# Altium schematic symbol library MY.Schlib1.SchLib: 11 symbols
Pins are listed as number, name and electrical type; pins without a type are passive.

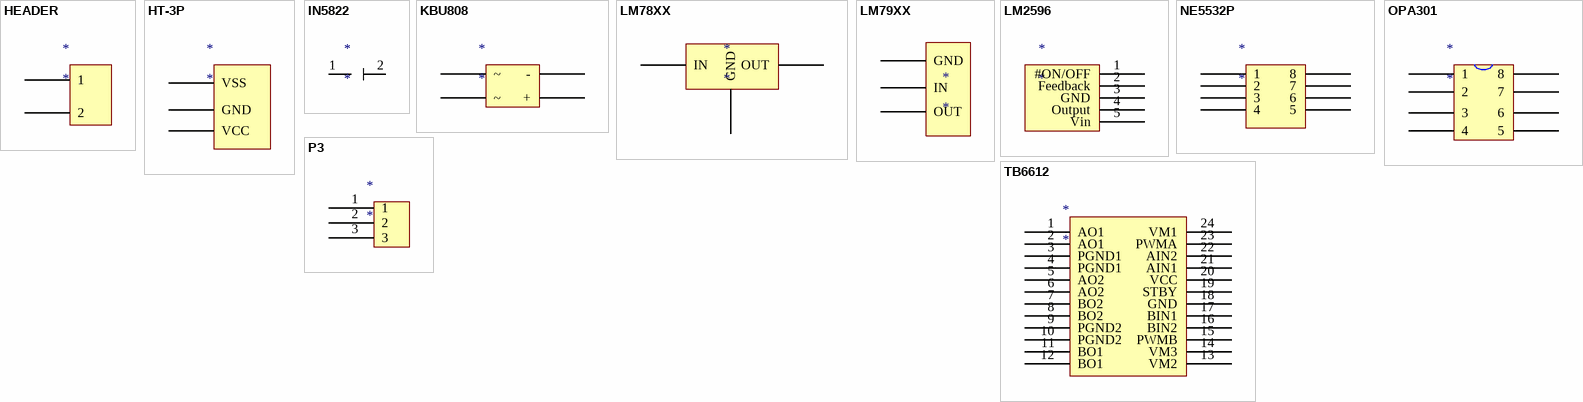
[diagram p0: symbols HEADER to TB6612]

## HEADER
designator *
pins: 9 1, 10 2

## HT-3P
designator *
footprint 插头-3P
pins: 1 VSS, 2 GND, 3 VCC

## IN5822
designator *
pins: 1 "OUT1", 2 "OUT1"

## KBU808
designator *
footprint KBU808
pins: 1 -, 2 ~, 3 ~, 4 +

## LM78XX
designator *
footprint 78XX
footprint Model Name (Footprint not found)
pins: 1 IN, 2 GND, 3 OUT

## LM79XX
designator *
footprint LM79XX
pins: 1 GND, 2 IN, 3 OUT

## LM2596
designator *
pins: 1 #ON/OFF "OUT1", 2 Feedback "OUT1", 3 GND "OUT1", 4 Output "OUT1", 5 Vin "OUT1"

## NE5532P
designator *
footprint SOP-8
pins: 1, 2, 3, 4, 5, 6, 7, 8

## OPA301
designator *
footprint SOP-8
pins: 1, 2, 3, 4, 5, 6, 7, 8

## P3
designator *
footprint P3
pins: 1, 2, 3

## TB6612
designator *
pins: 1 AO1 "OUT1", 2 AO1 "OUT1", 3 PGND1 "OUT1", 4 PGND1 "OUT1", 5 AO2 "OUT1", 6 AO2 "OUT1", 7 BO2 "OUT1", 8 BO2 "OUT1", 9 PGND2 "OUT1", 10 PGND2 "OUT1", 11 BO1 "OUT1", 12 BO1 "OUT1", 13 VM2 "OUT1", 14 VM3 "OUT1", 15 PWMB "OUT1", 16 BIN2 "OUT1", 17 BIN1 "OUT1", 18 GND "OUT1", 19 STBY "OUT1", 20 VCC "OUT1", 21 AIN1 "OUT1", 22 AIN2 "OUT1", 23 PWMA "OUT1", 24 VM1 "OUT1"